# EAGLE library part MCP23018-E/SS (library SFM-Project)
IC: expander; 16bit I/O port; I2C; SSOP24; 1.8÷5.5VDC
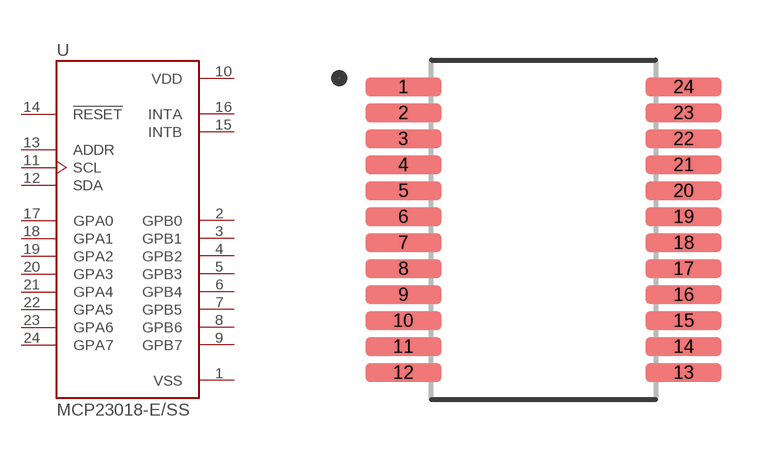
[diagram p7: symbol with the pads of SOP65P780X200-24N; footprint SOP65P780X200-24N]

Designator prefix U

## MCP23018-E/SS (DESCRIPTION: I/O Expander 16 I²C 3.4MHz 24-SSOP; DIGI-KEY_PART_NUMBER: MCP23018-E/SS-ND; MF: Microchip; MP: MCP23018-E/SS; PACKAGE: SSOP-24 Microchip)  [SOP65P780X200-24N]
1  VSS  pwr
2  GPB0
3  GPB1
4  GPB2
5  GPB3
6  GPB4
7  GPB5
8  GPB6
9  GPB7
10  VDD  pwr
11  SCL  in
12  SDA
13  ADDR  in
14  !RESET  in
15  INTB  out
16  INTA  out
17  GPA0
18  GPA1
19  GPA2
20  GPA3
21  GPA4
22  GPA5
23  GPA6
24  GPA7

## Footprint SOP65P780X200-24N (pad centres in mm)
smd 1.9 x 0.48: 1 -3.505,3.575; 2 -3.505,2.925; 3 -3.505,2.275; 4 -3.505,1.625; 5 -3.505,0.975; 6 -3.505,0.325; 7 -3.505,-0.325; 8 -3.505,-0.975; 9 -3.505,-1.625; 10 -3.505,-2.275; 11 -3.505,-2.925; 12 -3.505,-3.575; 13 3.505,-3.575; 14 3.505,-2.925; 15 3.505,-2.275; 16 3.505,-1.625; 17 3.505,-0.975; 18 3.505,-0.325; 19 3.505,0.325; 20 3.505,0.975; 21 3.505,1.625; 22 3.505,2.275; 23 3.505,2.925; 24 3.505,3.575